# EAGLE library part LTC3878 (library PowerProducts)
Fast, Wide Operating Range No RSENSE Step-Down DC/DC Controller
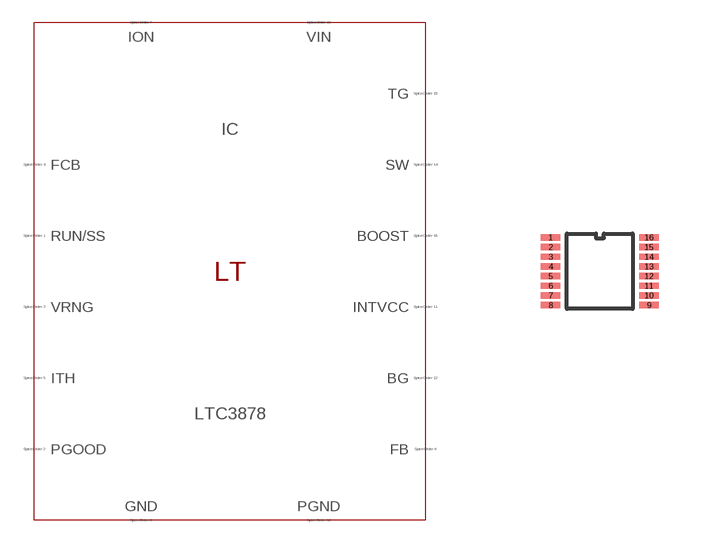
[diagram p391: symbol with the pads of SSOP16(GN); footprint SSOP16(GN)]

Designator prefix IC

## LTC3878 (SPICEMODEL: LTC3878.sub; SPICEPREFIX: X; VALUE2: LTC3878)  [SSOP16(GN)]
1  RUN/SS  pas
2  PGOOD  pas
3  VRNG  pas
4  FCB  pas
5  ITH  pas
6  GND  pas
7  ION  pas
8  FB  pas
10  VIN  pas
11  INTVCC  pas
12  BG  pas
13  PGND  pas
14  SW  pas
15  TG  pas
16  BOOST  pas

## Footprint SSOP16(GN) (pad centres in mm)
Package generated from: SSOP16(GN).asc (!PADS-POWERPCB-V5.0-BASIC! DESIGN DATABASE ASCII FILE 1.0) with :import-pads-powerpcb-v5.ulp Version 1.0.1 at 04.10.2012 14:11:37
smd 0.484 x 0.16: 1 -1.229,0.847; 2 -1.229,0.605; 3 -1.229,0.363; 4 -1.229,0.121; 5 -1.229,-0.121; 6 -1.229,-0.363; 7 -1.229,-0.605; 8 -1.229,-0.847; 9 1.229,-0.847; 10 1.229,-0.605; 11 1.229,-0.363; 12 1.229,-0.121; 13 1.229,0.121; 14 1.229,0.363; 15 1.229,0.605; 16 1.229,0.847